# EAGLE library part TE-MULTI-LOCK-8POS-175973-2 (library TE-MULTI-LOCK-8POS-175973-2)
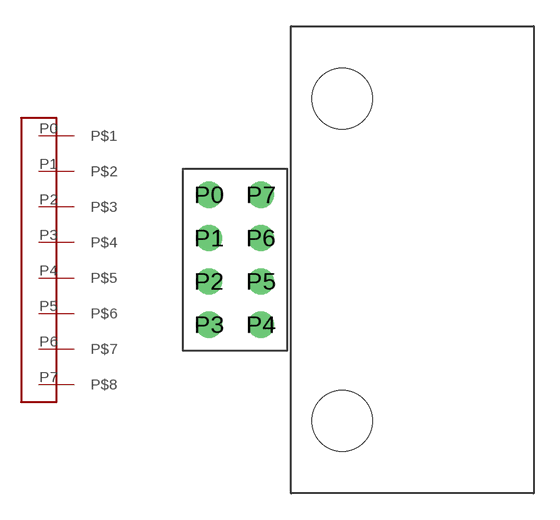
[diagram p0: symbol with the pads of TE-MULTI-LOCK-8POS-175973-2; footprint TE-MULTI-LOCK-8POS-175973-2]

Designator prefix -

## TE-MULTI-LOCK-8POS-175973-2  [TE-MULTI-LOCK-8POS-175973-2]
P0  P$1
P1  P$2
P2  P$3
P3  P$4
P4  P$5
P5  P$6
P6  P$7
P7  P$8

## Footprint TE-MULTI-LOCK-8POS-175973-2 (pad centres in mm)
drill 1: P0 -1.25,3.75; P1 -1.25,1.25; P2 -1.25,-1.25; P3 -1.25,-3.75; P4 1.75,-3.75; P5 1.75,-1.25; P6 1.75,1.25; P7 1.75,3.75
hole 3.5 at 6.45,9.3
hole 3.5 at 6.45,-9.3